# Altium footprint library Others.PcbLib: 1 footprints
Each footprint in its own frame and in the unit in brackets; x right, y up, seen from the top. Pads: shape width x height; smd on the part's side, far side on the other; paste and mask are expansions set on the pad; w line width, h text height; cw(c..) or ccw(c..) is an arc to the next point about the centre after c.
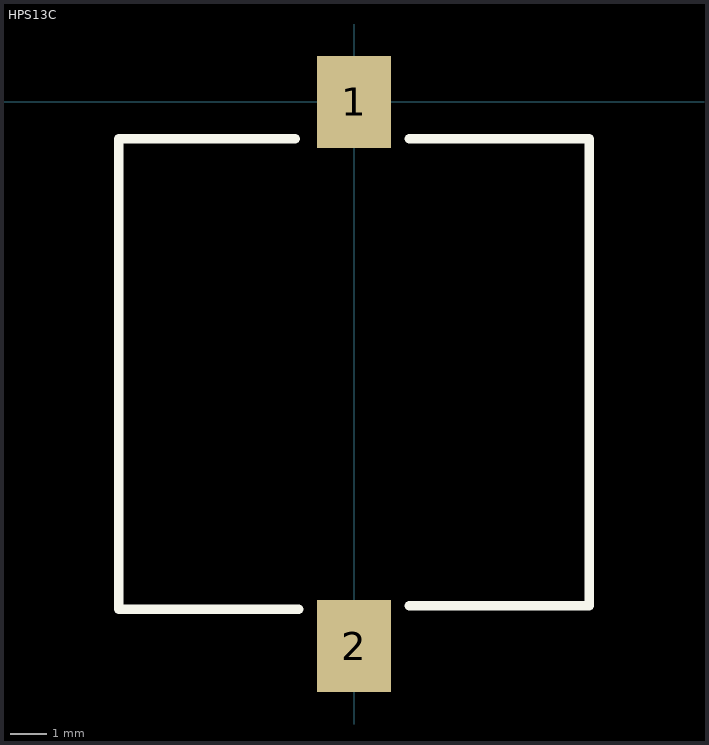
[diagram p0: the footprint, top view; thin cyan lines are the x and y axes]

## HPS13C [mm]
pads (2):
  rect 2x2.5 smd: 1(0,0) 2(0,-14.8)
Top Overlay:
  lines w0.254: -1.6,-1 -6.4,-1 -6.4,-13.8 -1.5,-13.8 ; 1.5,-13.7 6.4,-13.7 6.4,-1 1.5,-1
3D body: height 2.5, standoff 0, extent -6.4,-13.8 6.4,-1